# Altium footprint library Connectors.PcbLib: 40 footprints (part 3 of 3)
Each footprint in its own frame and in the unit in brackets; x right, y up, seen from the top. Pads: shape width x height; smd on the part's side, far side on the other; paste and mask are expansions set on the pad; w line width, h text height; cw(c..) or ccw(c..) is an arc to the next point about the centre after c.
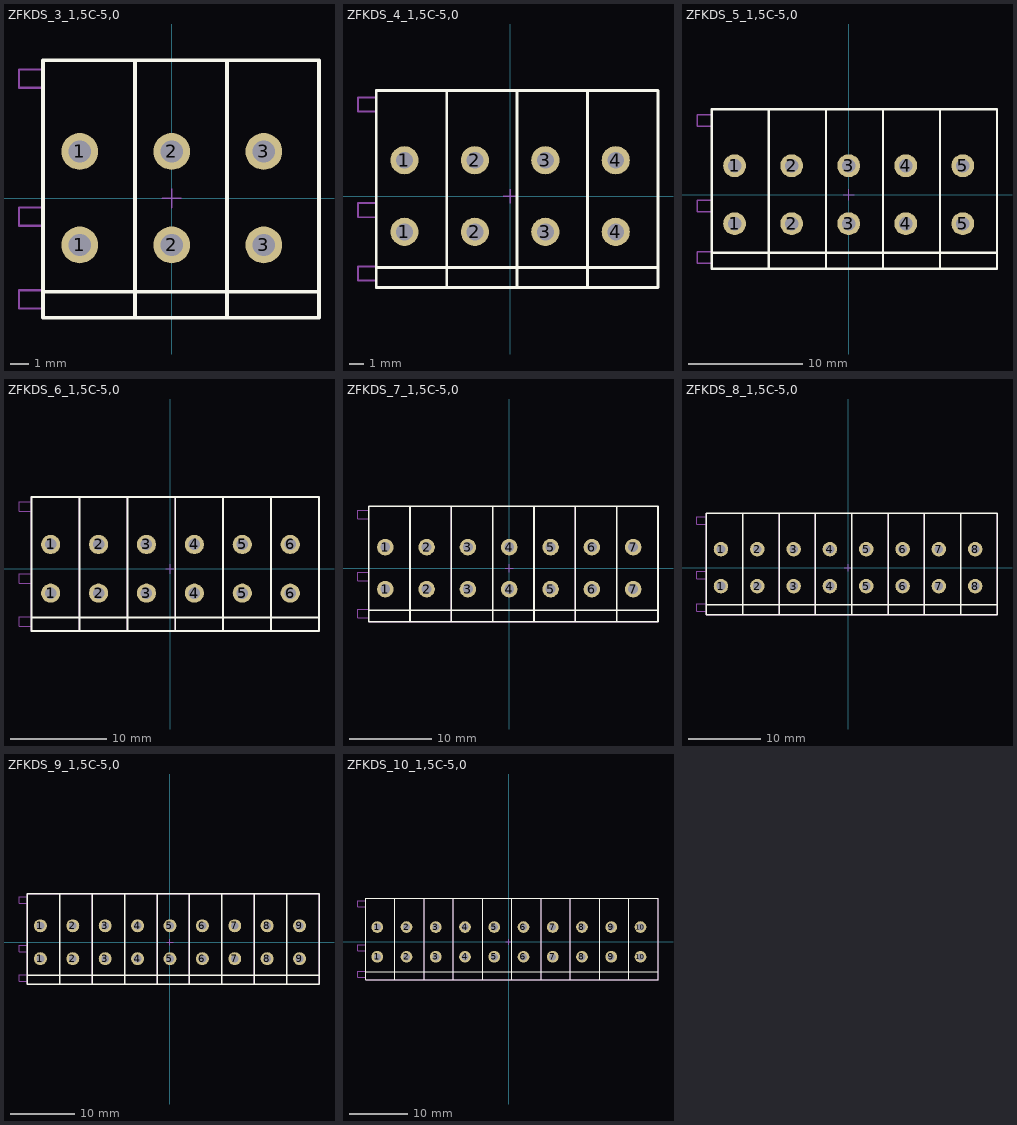
[diagram p2: the footprints below, top view; thin cyan lines are the x and y axes]

## ZFKDS_3_1,5C-5,0 [mm] "ZFKDS 1,5C-5,0, Phoenix Contact, 3 pins, Pitch 5mm"
height 2.5
pads (6):
  round 2 hole 1.2 unplated mask+0.1: 1(-5,-2.54) 1(-5,2.54) 2(0,-2.54) 2(0,2.54) 3(5,-2.54) 3(5,2.54)
Top Overlay:
  lines w0.2: -7,-5.08 8,-5.08 ; -2,-6.5 -2,7.5 ; -2,-6.5 3,-6.5 ; -2,-6.5 -7,-6.5 -7,7.5 -2,7.5 ; -2,-6.5 -2,7.5 ; -2,7.5 3,7.5 ; 3,-6.5 3,7.5 ; 3,-6.5 8,-6.5 8,7.5 3,7.5 ; 3,-6.5 3,7.5
ReperDotTop:
  lines w0.1: -0.5,0 0.5,0 ; 0,-0.5 0,0.5
AssemblyOutlineTop:
  lines w0.12: -7,-6 -8.3,-6 -8.3,-5 -7,-5 ; -7,-1.5 -8.3,-1.5 -8.3,-0.5 -7,-0.5 ; -7,6 -8.3,6 -8.3,7 -7,7 ; -2,-6.5 3,-6.5 ; -2,-6.5 -2,7.5 ; -2,-6.5 -7,-6.5 -7,7.5 -2,7.5 ; -2,-6.5 -2,7.5 ; -2,7.5 3,7.5 ; 3,-6.5 3,7.5 ; 3,-6.5 3,7.5 ; 3,-6.5 8,-6.5 8,7.5 3,7.5
  text "'.Designator'" at 0,0 h2.5
3D body "pxc_1889259_01_ZFKDS-1-5C-5-0_3D.stp": height 12.75, standoff -3.5, extent -3.4,-6.56 3,7.54
3D body "pxc_1889259_01_ZFKDS-1-5C-5-0_3D.stp": height 12.8, standoff -3.45, extent -8.4,-6.56 -2,7.54
3D body "pxc_1889259_01_ZFKDS-1-5C-5-0_3D.stp": height 12.75, standoff -3.5, extent 1.6,-6.56 8,7.54

## ZFKDS_4_1,5C-5,0 [mm] "ZFKDS 1,5C-5,0, Phoenix Contact, 4 pins, Pitch 5mm"
height 2.5
pads (8):
  round 2 hole 1.2 unplated mask+0.1: 1(-7.5,-2.54) 1(-7.5,2.54) 2(-2.5,-2.54) 2(-2.5,2.54) 3(2.5,-2.54) 3(2.5,2.54) 4(7.5,-2.54) 4(7.5,2.54)
Top Overlay:
  lines w0.2: -9.5,-5.08 10.5,-5.08 ; -4.5,-6.5 -4.5,7.5 ; -4.5,-6.5 0.5,-6.5 ; -4.5,-6.5 -9.5,-6.5 -9.5,7.5 -4.5,7.5 ; -4.5,-6.5 -4.5,7.5 ; -4.5,7.5 0.5,7.5 ; 0.5,-6.5 0.5,7.5 ; 0.5,-6.5 5.5,-6.5 ; 0.5,-6.5 0.5,7.5 ; 0.5,7.5 5.5,7.5 ; 5.5,-6.5 5.5,7.5 ; 5.5,-6.5 10.5,-6.5 10.5,7.5 5.5,7.5 ; 5.5,-6.5 5.5,7.5
ReperDotTop:
  lines w0.1: -0.5,0 0.5,0 ; 0,-0.5 0,0.5
AssemblyOutlineTop:
  lines w0.12: -9.5,-6 -10.8,-6 -10.8,-5 -9.5,-5 ; -9.5,-1.5 -10.8,-1.5 -10.8,-0.5 -9.5,-0.5 ; -9.5,6 -10.8,6 -10.8,7 -9.5,7 ; -4.5,-6.5 0.5,-6.5 ; -4.5,-6.5 -4.5,7.5 ; -4.5,-6.5 -9.5,-6.5 -9.5,7.5 -4.5,7.5 ; -4.5,-6.5 -4.5,7.5 ; -4.5,7.5 0.5,7.5 ; 0.5,-6.5 0.5,7.5 ; 0.5,-6.5 0.5,7.5 ; 0.5,-6.5 5.5,-6.5 ; 0.5,7.5 5.5,7.5 ; 5.5,-6.5 5.5,7.5 ; 5.5,-6.5 5.5,7.5 ; 5.5,-6.5 10.5,-6.5 10.5,7.5 5.5,7.5
  text "'.Designator'" at 0,0 h2.5
3D body "pxc_1889259_01_ZFKDS-1-5C-5-0_3D.stp": height 12.75, standoff -3.5, extent -5.9,-6.56 0.5,7.54
3D body "pxc_1889259_01_ZFKDS-1-5C-5-0_3D.stp": height 12.8, standoff -3.45, extent -10.9,-6.56 -4.5,7.54
3D body "pxc_1889259_01_ZFKDS-1-5C-5-0_3D.stp": height 12.75, standoff -3.5, extent -0.9,-6.56 5.5,7.54
3D body "pxc_1889259_01_ZFKDS-1-5C-5-0_3D.stp": height 12.75, standoff -3.5, extent 4.1,-6.56 10.5,7.54

## ZFKDS_5_1,5C-5,0 [mm] "ZFKDS 1,5C-5,0, Phoenix Contact, 5 pins, Pitch 5mm"
height 2.5
pads (10):
  round 2 hole 1.2 unplated mask+0.1: 1(-10,-2.54) 1(-10,2.54) 2(-5,-2.54) 2(-5,2.54) 3(0,-2.54) 3(0,2.54) 4(5,-2.54) 4(5,2.54) 5(10,-2.54) 5(10,2.54)
Top Overlay:
  lines w0.2: -12,-5.08 13,-5.08 ; -7,-6.5 -7,7.5 ; -7,-6.5 -2,-6.5 ; -7,-6.5 -12,-6.5 -12,7.5 -7,7.5 ; -7,-6.5 -7,7.5 ; -7,7.5 -2,7.5 ; -2,-6.5 -2,7.5 ; -2,-6.5 3,-6.5 ; -2,-6.5 -2,7.5 ; -2,7.5 3,7.5 ; 3,-6.5 3,7.5 ; 3,-6.5 8,-6.5 ; 3,-6.5 3,7.5 ; 3,7.5 8,7.5 ; 8,-6.5 8,7.5 ; 8,-6.5 13,-6.5 13,7.5 8,7.5 ; 8,-6.5 8,7.5
ReperDotTop:
  lines w0.1: -0.5,0 0.5,0 ; 0,-0.5 0,0.5
AssemblyOutlineTop:
  lines w0.12: -12,-6 -13.3,-6 -13.3,-5 -12,-5 ; -12,-1.5 -13.3,-1.5 -13.3,-0.5 -12,-0.5 ; -12,6 -13.3,6 -13.3,7 -12,7 ; -7,-6.5 -2,-6.5 ; -7,-6.5 -7,7.5 ; -7,-6.5 -12,-6.5 -12,7.5 -7,7.5 ; -7,-6.5 -7,7.5 ; -7,7.5 -2,7.5 ; -2,-6.5 -2,7.5 ; -2,-6.5 -2,7.5 ; -2,-6.5 3,-6.5 ; -2,7.5 3,7.5 ; 3,-6.5 3,7.5 ; 3,-6.5 3,7.5 ; 3,-6.5 8,-6.5 ; 3,7.5 8,7.5 ; 8,-6.5 13,-6.5 13,7.5 8,7.5 ; 8,-6.5 8,7.5 ; 8,-6.5 8,7.5
  text "'.Designator'" at 0,0 h2.5
3D body "pxc_1889259_01_ZFKDS-1-5C-5-0_3D.stp": height 12.75, standoff -3.5, extent 6.6,-6.56 13,7.54
3D body "pxc_1889259_01_ZFKDS-1-5C-5-0_3D.stp": height 12.75, standoff -3.5, extent -8.4,-6.56 -2,7.54
3D body "pxc_1889259_01_ZFKDS-1-5C-5-0_3D.stp": height 12.8, standoff -3.45, extent -13.4,-6.56 -7,7.54
3D body "pxc_1889259_01_ZFKDS-1-5C-5-0_3D.stp": height 12.75, standoff -3.5, extent -3.4,-6.56 3,7.54
3D body "pxc_1889259_01_ZFKDS-1-5C-5-0_3D.stp": height 12.75, standoff -3.5, extent 1.6,-6.56 8,7.54

## ZFKDS_6_1,5C-5,0 [mm] "ZFKDS 1,5C-5,0, Phoenix Contact, 6 pins, Pitch 5mm"
height 2.5
pads (12):
  round 2 hole 1.2 unplated mask+0.1: 1(-12.5,-2.54) 1(-12.5,2.54) 2(-7.5,-2.54) 2(-7.5,2.54) 3(-2.5,-2.54) 3(-2.5,2.54) 4(2.5,-2.54) 4(2.5,2.54) 5(7.5,-2.54) 5(7.5,2.54) 6(12.5,-2.54) 6(12.5,2.54)
Top Overlay:
  lines w0.2: -14.5,-5.08 15.5,-5.08 ; -9.5,-6.5 -9.5,7.5 ; -9.5,-6.5 -14.5,-6.5 -14.5,7.5 -9.5,7.5 ; -9.5,-6.5 -4.5,-6.5 ; -9.5,-6.5 -9.5,7.5 ; -9.5,7.5 -4.5,7.5 ; -4.5,-6.5 -4.5,7.5 ; -4.5,-6.5 0.5,-6.5 ; -4.5,-6.5 -4.5,7.5 ; -4.5,7.5 0.5,7.5 ; 0.5,-6.5 0.5,7.5 ; 0.5,-6.5 5.5,-6.5 ; 0.5,-6.5 0.5,7.5 ; 0.5,7.5 5.5,7.5 ; 5.5,-6.5 5.5,7.5 ; 5.5,-6.5 10.5,-6.5 ; 5.5,-6.5 5.5,7.5 ; 5.5,7.5 10.5,7.5 ; 10.5,-6.5 10.5,7.5 ; 10.5,-6.5 15.5,-6.5 15.5,7.5 10.5,7.5 ; 10.5,-6.5 10.5,7.5
ReperDotTop:
  lines w0.1: -0.5,0 0.5,0 ; 0,-0.5 0,0.5
AssemblyOutlineTop:
  lines w0.12: -14.5,-6 -15.8,-6 -15.8,-5 -14.5,-5 ; -14.5,-1.5 -15.8,-1.5 -15.8,-0.5 -14.5,-0.5 ; -14.5,6 -15.8,6 -15.8,7 -14.5,7 ; -9.5,-6.5 -9.5,7.5 ; -9.5,-6.5 -14.5,-6.5 -14.5,7.5 -9.5,7.5 ; -9.5,-6.5 -9.5,7.5 ; -9.5,-6.5 -4.5,-6.5 ; -9.5,7.5 -4.5,7.5 ; -4.5,-6.5 0.5,-6.5 ; -4.5,-6.5 -4.5,7.5 ; -4.5,-6.5 -4.5,7.5 ; -4.5,7.5 0.5,7.5 ; 0.5,-6.5 5.5,-6.5 ; 0.5,-6.5 0.5,7.5 ; 0.5,-6.5 0.5,7.5 ; 0.5,7.5 5.5,7.5 ; 5.5,-6.5 5.5,7.5 ; 5.5,-6.5 5.5,7.5 ; 5.5,-6.5 10.5,-6.5 ; 5.5,7.5 10.5,7.5 ; 10.5,-6.5 10.5,7.5 ; 10.5,-6.5 10.5,7.5 ; 10.5,-6.5 15.5,-6.5 15.5,7.5 10.5,7.5
  text "'.Designator'" at 0,0 h2.5
3D body "pxc_1889259_01_ZFKDS-1-5C-5-0_3D.stp": height 12.75, standoff -3.5, extent -0.9,-6.56 5.5,7.54
3D body "pxc_1889259_01_ZFKDS-1-5C-5-0_3D.stp": height 12.75, standoff -3.5, extent -5.9,-6.56 0.5,7.54
3D body "pxc_1889259_01_ZFKDS-1-5C-5-0_3D.stp": height 12.8, standoff -3.45, extent -15.9,-6.56 -9.5,7.54
3D body "pxc_1889259_01_ZFKDS-1-5C-5-0_3D.stp": height 12.75, standoff -3.5, extent -10.9,-6.56 -4.5,7.54
3D body "pxc_1889259_01_ZFKDS-1-5C-5-0_3D.stp": height 12.75, standoff -3.5, extent 4.1,-6.56 10.5,7.54
3D body "pxc_1889259_01_ZFKDS-1-5C-5-0_3D.stp": height 12.75, standoff -3.5, extent 9.1,-6.56 15.5,7.54

## ZFKDS_7_1,5C-5,0 [mm] "ZFKDS 1,5C-5,0, Phoenix Contact, 7 pins, Pitch 5mm"
height 2.5
pads (14):
  round 2 hole 1.2 unplated mask+0.1: 1(-15,-2.54) 1(-15,2.54) 2(-10,-2.54) 2(-10,2.54) 3(-5,-2.54) 3(-5,2.54) 4(0,-2.54) 4(0,2.54) 5(5,-2.54) 5(5,2.54) 6(10,-2.54) 6(10,2.54) 7(15,-2.54) 7(15,2.54)
Top Overlay:
  lines w0.2: -17,-5.08 18,-5.08 ; -12,-6.5 -12,7.5 ; -12,-6.5 -7,-6.5 ; -12,-6.5 -17,-6.5 -17,7.5 -12,7.5 ; -12,-6.5 -12,7.5 ; -12,7.5 -7,7.5 ; -7,-6.5 -7,7.5 ; -7,-6.5 -2,-6.5 ; -7,-6.5 -7,7.5 ; -7,7.5 -2,7.5 ; -2,-6.5 -2,7.5 ; -2,-6.5 3,-6.5 ; -2,-6.5 -2,7.5 ; -2,7.5 3,7.5 ; 3,-6.5 3,7.5 ; 3,-6.5 8,-6.5 ; 3,-6.5 3,7.5 ; 3,7.5 8,7.5 ; 8,-6.5 8,7.5 ; 8,-6.5 13,-6.5 ; 8,-6.5 8,7.5 ; 8,7.5 13,7.5 ; 13,-6.5 13,7.5 ; 13,-6.5 18,-6.5 18,7.5 13,7.5 ; 13,-6.5 13,7.5
ReperDotTop:
  lines w0.1: -0.5,0 0.5,0 ; 0,-0.5 0,0.5
AssemblyOutlineTop:
  lines w0.12: -17,-6 -18.3,-6 -18.3,-5 -17,-5 ; -17,-1.5 -18.3,-1.5 -18.3,-0.5 -17,-0.5 ; -17,6 -18.3,6 -18.3,7 -17,7 ; -12,-6.5 -7,-6.5 ; -12,-6.5 -12,7.5 ; -12,-6.5 -17,-6.5 -17,7.5 -12,7.5 ; -12,-6.5 -12,7.5 ; -12,7.5 -7,7.5 ; -7,-6.5 -7,7.5 ; -7,-6.5 -7,7.5 ; -7,-6.5 -2,-6.5 ; -7,7.5 -2,7.5 ; -2,-6.5 -2,7.5 ; -2,-6.5 -2,7.5 ; -2,-6.5 3,-6.5 ; -2,7.5 3,7.5 ; 3,-6.5 8,-6.5 ; 3,-6.5 3,7.5 ; 3,-6.5 3,7.5 ; 3,7.5 8,7.5 ; 8,-6.5 13,-6.5 ; 8,-6.5 8,7.5 ; 8,-6.5 8,7.5 ; 8,7.5 13,7.5 ; 13,-6.5 18,-6.5 18,7.5 13,7.5 ; 13,-6.5 13,7.5 ; 13,-6.5 13,7.5
  text "'.Designator'" at 0,0 h2.5
3D body "pxc_1889259_01_ZFKDS-1-5C-5-0_3D.stp": height 12.75, standoff -3.5, extent 11.6,-6.56 18,7.54
3D body "pxc_1889259_01_ZFKDS-1-5C-5-0_3D.stp": height 12.75, standoff -3.5, extent 6.6,-6.56 13,7.54
3D body "pxc_1889259_01_ZFKDS-1-5C-5-0_3D.stp": height 12.75, standoff -3.5, extent 1.6,-6.56 8,7.54
3D body "pxc_1889259_01_ZFKDS-1-5C-5-0_3D.stp": height 12.75, standoff -3.5, extent -13.4,-6.56 -7,7.54
3D body "pxc_1889259_01_ZFKDS-1-5C-5-0_3D.stp": height 12.8, standoff -3.45, extent -18.4,-6.56 -12,7.54
3D body "pxc_1889259_01_ZFKDS-1-5C-5-0_3D.stp": height 12.75, standoff -3.5, extent -8.4,-6.56 -2,7.54
3D body "pxc_1889259_01_ZFKDS-1-5C-5-0_3D.stp": height 12.75, standoff -3.5, extent -3.4,-6.56 3,7.54

## ZFKDS_8_1,5C-5,0 [mm] "ZFKDS 1,5C-5,0, Phoenix Contact, 8 pins, Pitch 5mm"
height 2.5
pads (16):
  round 2 hole 1.2 unplated mask+0.1: 1(-17.5,-2.54) 1(-17.5,2.54) 2(-12.5,-2.54) 2(-12.5,2.54) 3(-7.5,-2.54) 3(-7.5,2.54) 4(-2.5,-2.54) 4(-2.5,2.54) 5(2.5,-2.54) 5(2.5,2.54) 6(7.5,-2.54) 6(7.5,2.54) 7(12.5,-2.54) 7(12.5,2.54) 8(17.5,-2.54) 8(17.5,2.54)
Top Overlay:
  lines w0.2: -19.5,-5.08 20.5,-5.08 ; -14.5,-6.5 -14.5,7.5 ; -14.5,-6.5 -19.5,-6.5 -19.5,7.5 -14.5,7.5 ; -14.5,-6.5 -9.5,-6.5 ; -14.5,-6.5 -14.5,7.5 ; -14.5,7.5 -9.5,7.5 ; -9.5,-6.5 -9.5,7.5 ; -9.5,-6.5 -4.5,-6.5 ; -9.5,-6.5 -9.5,7.5 ; -9.5,7.5 -4.5,7.5 ; -4.5,-6.5 -4.5,7.5 ; -4.5,-6.5 0.5,-6.5 ; -4.5,-6.5 -4.5,7.5 ; -4.5,7.5 0.5,7.5 ; 0.5,-6.5 0.5,7.5 ; 0.5,-6.5 5.5,-6.5 ; 0.5,-6.5 0.5,7.5 ; 0.5,7.5 5.5,7.5 ; 5.5,-6.5 5.5,7.5 ; 5.5,-6.5 10.5,-6.5 ; 5.5,-6.5 5.5,7.5 ; 5.5,7.5 10.5,7.5 ; 10.5,-6.5 10.5,7.5 ; 10.5,-6.5 15.5,-6.5 ; 10.5,-6.5 10.5,7.5 ; 10.5,7.5 15.5,7.5 ; 15.5,-6.5 15.5,7.5 ; 15.5,-6.5 20.5,-6.5 20.5,7.5 15.5,7.5 ; 15.5,-6.5 15.5,7.5
ReperDotTop:
  lines w0.1: -0.5,0 0.5,0 ; 0,-0.5 0,0.5
AssemblyOutlineTop:
  lines w0.12: -19.5,-6 -20.8,-6 -20.8,-5 -19.5,-5 ; -19.5,-1.5 -20.8,-1.5 -20.8,-0.5 -19.5,-0.5 ; -19.5,6 -20.8,6 -20.8,7 -19.5,7 ; -14.5,-6.5 -14.5,7.5 ; -14.5,-6.5 -19.5,-6.5 -19.5,7.5 -14.5,7.5 ; -14.5,-6.5 -14.5,7.5 ; -14.5,-6.5 -9.5,-6.5 ; -14.5,7.5 -9.5,7.5 ; -9.5,-6.5 -4.5,-6.5 ; -9.5,-6.5 -9.5,7.5 ; -9.5,-6.5 -9.5,7.5 ; -9.5,7.5 -4.5,7.5 ; -4.5,-6.5 0.5,-6.5 ; -4.5,-6.5 -4.5,7.5 ; -4.5,-6.5 -4.5,7.5 ; -4.5,7.5 0.5,7.5 ; 0.5,-6.5 0.5,7.5 ; 0.5,-6.5 0.5,7.5 ; 0.5,-6.5 5.5,-6.5 ; 0.5,7.5 5.5,7.5 ; 5.5,-6.5 5.5,7.5 ; 5.5,-6.5 5.5,7.5 ; 5.5,-6.5 10.5,-6.5 ; 5.5,7.5 10.5,7.5 ; 10.5,-6.5 10.5,7.5 ; 10.5,-6.5 10.5,7.5 ; 10.5,-6.5 15.5,-6.5 ; 10.5,7.5 15.5,7.5 ; 15.5,-6.5 20.5,-6.5 20.5,7.5 15.5,7.5 ; 15.5,-6.5 15.5,7.5 ; 15.5,-6.5 15.5,7.5
  text "'.Designator'" at 0,0 h2.5
3D body "pxc_1889259_01_ZFKDS-1-5C-5-0_3D.stp": height 12.75, standoff -3.5, extent 14.1,-6.56 20.5,7.54
3D body "pxc_1889259_01_ZFKDS-1-5C-5-0_3D.stp": height 12.75, standoff -3.5, extent -5.9,-6.56 0.5,7.54
3D body "pxc_1889259_01_ZFKDS-1-5C-5-0_3D.stp": height 12.75, standoff -3.5, extent -10.9,-6.56 -4.5,7.54
3D body "pxc_1889259_01_ZFKDS-1-5C-5-0_3D.stp": height 12.8, standoff -3.45, extent -20.9,-6.56 -14.5,7.54
3D body "pxc_1889259_01_ZFKDS-1-5C-5-0_3D.stp": height 12.75, standoff -3.5, extent -15.9,-6.56 -9.5,7.54
3D body "pxc_1889259_01_ZFKDS-1-5C-5-0_3D.stp": height 12.75, standoff -3.5, extent -0.9,-6.56 5.5,7.54
3D body "pxc_1889259_01_ZFKDS-1-5C-5-0_3D.stp": height 12.75, standoff -3.5, extent 4.1,-6.56 10.5,7.54
3D body "pxc_1889259_01_ZFKDS-1-5C-5-0_3D.stp": height 12.75, standoff -3.5, extent 9.1,-6.56 15.5,7.54

## ZFKDS_9_1,5C-5,0 [mm] "ZFKDS 1,5C-5,0, Phoenix Contact, 9 pins, Pitch 5mm"
height 2.5
pads (18):
  round 2 hole 1.2 unplated mask+0.1: 1(-20,-2.54) 1(-20,2.54) 2(-15,-2.54) 2(-15,2.54) 3(-10,-2.54) 3(-10,2.54) 4(-5,-2.54) 4(-5,2.54) 5(0,-2.54) 5(0,2.54) 6(5,-2.54) 6(5,2.54) 7(10,-2.54) 7(10,2.54) 8(15,-2.54) 8(15,2.54) 9(20,-2.54) 9(20,2.54)
Top Overlay:
  lines w0.2: -22,-5.08 23,-5.08 ; -17,-6.5 -17,7.5 ; -17,-6.5 -22,-6.5 -22,7.5 -17,7.5 ; -17,-6.5 -12,-6.5 ; -17,-6.5 -17,7.5 ; -17,7.5 -12,7.5 ; -12,-6.5 -12,7.5 ; -12,-6.5 -7,-6.5 ; -12,-6.5 -12,7.5 ; -12,7.5 -7,7.5 ; -7,-6.5 -7,7.5 ; -7,-6.5 -2,-6.5 ; -7,-6.5 -7,7.5 ; -7,7.5 -2,7.5 ; -2,-6.5 -2,7.5 ; -2,-6.5 3,-6.5 ; -2,-6.5 -2,7.5 ; -2,7.5 3,7.5 ; 3,-6.5 3,7.5 ; 3,-6.5 8,-6.5 ; 3,-6.5 3,7.5 ; 3,7.5 8,7.5 ; 8,-6.5 8,7.5 ; 8,-6.5 13,-6.5 ; 8,-6.5 8,7.5 ; 8,7.5 13,7.5 ; 13,-6.5 13,7.5 ; 13,-6.5 18,-6.5 ; 13,-6.5 13,7.5 ; 13,7.5 18,7.5 ; 18,-6.5 18,7.5 ; 18,-6.5 23,-6.5 23,7.5 18,7.5 ; 18,-6.5 18,7.5
ReperDotTop:
  lines w0.1: -0.5,0 0.5,0 ; 0,-0.5 0,0.5
AssemblyOutlineTop:
  lines w0.12: -22,-6 -23.3,-6 -23.3,-5 -22,-5 ; -22,-1.5 -23.3,-1.5 -23.3,-0.5 -22,-0.5 ; -22,6 -23.3,6 -23.3,7 -22,7 ; -17,-6.5 -17,7.5 ; -17,-6.5 -22,-6.5 -22,7.5 -17,7.5 ; -17,-6.5 -17,7.5 ; -17,-6.5 -12,-6.5 ; -17,7.5 -12,7.5 ; -12,-6.5 -7,-6.5 ; -12,-6.5 -12,7.5 ; -12,-6.5 -12,7.5 ; -12,7.5 -7,7.5 ; -7,-6.5 -2,-6.5 ; -7,-6.5 -7,7.5 ; -7,-6.5 -7,7.5 ; -7,7.5 -2,7.5 ; -2,-6.5 -2,7.5 ; -2,-6.5 -2,7.5 ; -2,-6.5 3,-6.5 ; -2,7.5 3,7.5 ; 3,-6.5 3,7.5 ; 3,-6.5 3,7.5 ; 3,-6.5 8,-6.5 ; 3,7.5 8,7.5 ; 8,-6.5 8,7.5 ; 8,-6.5 8,7.5 ; 8,-6.5 13,-6.5 ; 8,7.5 13,7.5 ; 13,-6.5 18,-6.5 ; 13,-6.5 13,7.5 ; 13,-6.5 13,7.5 ; 13,7.5 18,7.5 ; 18,-6.5 23,-6.5 23,7.5 18,7.5 ; 18,-6.5 18,7.5 ; 18,-6.5 18,7.5
  text "'.Designator'" at 0,0 h2.5
3D body "pxc_1889259_01_ZFKDS-1-5C-5-0_3D.stp": height 12.75, standoff -3.5, extent 16.6,-6.56 23,7.54
3D body "pxc_1889259_01_ZFKDS-1-5C-5-0_3D.stp": height 12.75, standoff -3.5, extent 11.6,-6.56 18,7.54
3D body "pxc_1889259_01_ZFKDS-1-5C-5-0_3D.stp": height 12.75, standoff -3.5, extent -8.4,-6.56 -2,7.54
3D body "pxc_1889259_01_ZFKDS-1-5C-5-0_3D.stp": height 12.75, standoff -3.5, extent -13.4,-6.56 -7,7.54
3D body "pxc_1889259_01_ZFKDS-1-5C-5-0_3D.stp": height 12.8, standoff -3.45, extent -23.4,-6.56 -17,7.54
3D body "pxc_1889259_01_ZFKDS-1-5C-5-0_3D.stp": height 12.75, standoff -3.5, extent -18.4,-6.56 -12,7.54
3D body "pxc_1889259_01_ZFKDS-1-5C-5-0_3D.stp": height 12.75, standoff -3.5, extent -3.4,-6.56 3,7.54
3D body "pxc_1889259_01_ZFKDS-1-5C-5-0_3D.stp": height 12.75, standoff -3.5, extent 1.6,-6.56 8,7.54
3D body "pxc_1889259_01_ZFKDS-1-5C-5-0_3D.stp": height 12.75, standoff -3.5, extent 6.6,-6.56 13,7.54

## ZFKDS_10_1,5C-5,0 [mm] "ZFKDS 1,5C-5,0, Phoenix Contact, 10 pins, Pitch 5mm"
height 2.5
pads (20):
  round 2 hole 1.2 unplated mask+0.1: 1(-22.5,-2.54) 1(-22.5,2.54) 2(-17.5,-2.54) 2(-17.5,2.54) 3(-12.5,-2.54) 3(-12.5,2.54) 4(-7.5,-2.54) 4(-7.5,2.54) 5(-2.5,-2.54) 5(-2.5,2.54) 6(2.5,-2.54) 6(2.5,2.54) 7(7.5,-2.54) 7(7.5,2.54) 8(12.5,-2.54) 8(12.5,2.54) 9(17.5,-2.54) 9(17.5,2.54) 10(22.5,-2.54) 10(22.5,2.54)
Top Overlay:
  lines w0.2: -24.5,-5.08 25.5,-5.08 ; -19.5,-6.5 -19.5,7.5 ; -19.5,-6.5 -14.5,-6.5 ; -19.5,-6.5 -24.5,-6.5 -24.5,7.5 -19.5,7.5 ; -19.5,-6.5 -19.5,7.5 ; -19.5,7.5 -14.5,7.5 ; -14.5,-6.5 -14.5,7.5 ; -14.5,-6.5 -9.5,-6.5 ; -14.5,-6.5 -14.5,7.5 ; -14.5,7.5 -9.5,7.5 ; -9.5,-6.5 -9.5,7.5 ; -9.5,-6.5 -4.5,-6.5 ; -9.5,-6.5 -9.5,7.5 ; -9.5,7.5 -4.5,7.5 ; -4.5,-6.5 -4.5,7.5 ; -4.5,-6.5 0.5,-6.5 ; -4.5,-6.5 -4.5,7.5 ; -4.5,7.5 0.5,7.5 ; 0.5,-6.5 0.5,7.5 ; 0.5,-6.5 5.5,-6.5 ; 0.5,-6.5 0.5,7.5 ; 0.5,7.5 5.5,7.5 ; 5.5,-6.5 5.5,7.5 ; 5.5,-6.5 10.5,-6.5 ; 5.5,-6.5 5.5,7.5 ; 5.5,7.5 10.5,7.5 ; 10.5,-6.5 10.5,7.5 ; 10.5,-6.5 15.5,-6.5 ; 10.5,-6.5 10.5,7.5 ; 10.5,7.5 15.5,7.5 ; 15.5,-6.5 15.5,7.5 ; 15.5,-6.5 20.5,-6.5 ; 15.5,-6.5 15.5,7.5 ; 15.5,7.5 20.5,7.5 ; 20.5,-6.5 20.5,7.5 ; 20.5,-6.5 25.5,-6.5 25.5,7.5 20.5,7.5 ; 20.5,-6.5 20.5,7.5
ReperDotTop:
  lines w0.1: -0.5,0 0.5,0 ; 0,-0.5 0,0.5
AssemblyOutlineTop:
  lines w0.12: -24.5,-6 -25.8,-6 -25.8,-5 -24.5,-5 ; -24.5,-1.5 -25.8,-1.5 -25.8,-0.5 -24.5,-0.5 ; -24.5,6 -25.8,6 -25.8,7 -24.5,7 ; -19.5,-6.5 -14.5,-6.5 ; -19.5,-6.5 -19.5,7.5 ; -19.5,-6.5 -24.5,-6.5 -24.5,7.5 -19.5,7.5 ; -19.5,-6.5 -19.5,7.5 ; -19.5,7.5 -14.5,7.5 ; -14.5,-6.5 -14.5,7.5 ; -14.5,-6.5 -14.5,7.5 ; -14.5,-6.5 -9.5,-6.5 ; -14.5,7.5 -9.5,7.5 ; -9.5,-6.5 -9.5,7.5 ; -9.5,-6.5 -9.5,7.5 ; -9.5,-6.5 -4.5,-6.5 ; -9.5,7.5 -4.5,7.5 ; -4.5,-6.5 0.5,-6.5 ; -4.5,-6.5 -4.5,7.5 ; -4.5,-6.5 -4.5,7.5 ; -4.5,7.5 0.5,7.5 ; 0.5,-6.5 5.5,-6.5 ; 0.5,-6.5 0.5,7.5 ; 0.5,-6.5 0.5,7.5 ; 0.5,7.5 5.5,7.5 ; 5.5,-6.5 10.5,-6.5 ; 5.5,-6.5 5.5,7.5 ; 5.5,-6.5 5.5,7.5 ; 5.5,7.5 10.5,7.5 ; 10.5,-6.5 10.5,7.5 ; 10.5,-6.5 10.5,7.5 ; 10.5,-6.5 15.5,-6.5 ; 10.5,7.5 15.5,7.5 ; 15.5,-6.5 15.5,7.5 ; 15.5,-6.5 15.5,7.5 ; 15.5,-6.5 20.5,-6.5 ; 15.5,7.5 20.5,7.5 ; 20.5,-6.5 20.5,7.5 ; 20.5,-6.5 20.5,7.5 ; 20.5,-6.5 25.5,-6.5 25.5,7.5 20.5,7.5
  text "'.Designator'" at 0,0 h2.5
3D body "pxc_1889259_01_ZFKDS-1-5C-5-0_3D.stp": height 12.75, standoff -3.5, extent 4.1,-6.56 10.5,7.54
3D body "pxc_1889259_01_ZFKDS-1-5C-5-0_3D.stp": height 12.75, standoff -3.5, extent -0.9,-6.56 5.5,7.54
3D body "pxc_1889259_01_ZFKDS-1-5C-5-0_3D.stp": height 12.75, standoff -3.5, extent -5.9,-6.56 0.5,7.54
3D body "pxc_1889259_01_ZFKDS-1-5C-5-0_3D.stp": height 12.75, standoff -3.5, extent -20.9,-6.56 -14.5,7.54
3D body "pxc_1889259_01_ZFKDS-1-5C-5-0_3D.stp": height 12.8, standoff -3.45, extent -25.9,-6.56 -19.5,7.54
3D body "pxc_1889259_01_ZFKDS-1-5C-5-0_3D.stp": height 12.75, standoff -3.5, extent -15.9,-6.56 -9.5,7.54
3D body "pxc_1889259_01_ZFKDS-1-5C-5-0_3D.stp": height 12.75, standoff -3.5, extent -10.9,-6.56 -4.5,7.54
3D body "pxc_1889259_01_ZFKDS-1-5C-5-0_3D.stp": height 12.75, standoff -3.5, extent 9.1,-6.56 15.5,7.54
3D body "pxc_1889259_01_ZFKDS-1-5C-5-0_3D.stp": height 12.75, standoff -3.5, extent 14.1,-6.56 20.5,7.54
3D body "pxc_1889259_01_ZFKDS-1-5C-5-0_3D.stp": height 12.75, standoff -3.5, extent 19.1,-6.56 25.5,7.54